# Altium footprint library ASSMANN A-2004-2-4-LPS-N-R.PCBLIB: 1 footprints
Each footprint in its own frame and in the unit in brackets; x right, y up, seen from the top. Pads: shape width x height; smd on the part's side, far side on the other; paste and mask are expansions set on the pad; w line width, h text height; cw(c..) or ccw(c..) is an arc to the next point about the centre after c.
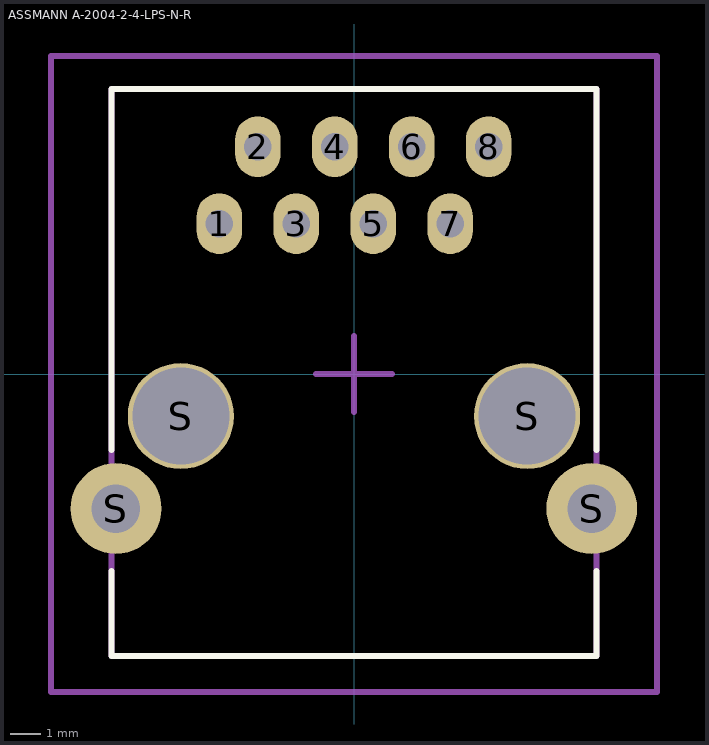
[diagram p0: the footprint, top view; thin cyan lines are the x and y axes]

## ASSMANN A-2004-2-4-LPS-N-R [mm]
height 13.3
pads (12):
  oval 1.5x2 hole 0.9: 1(-4.445,4.96) 2(-3.175,7.5) 3(-1.905,4.96) 4(-0.635,7.5) 5(0.635,4.96) 6(1.905,7.5) 7(3.175,4.96) 8(4.445,7.5)
  round 3 hole 1.6: S(-7.855,-4.44) S(7.845,-4.44)
  round 3.5 hole 3.2: S(-5.715,-1.39) S(5.715,-1.39)
Top Overlay:
  lines w0.2: -8,-6.5 -8,-9.3 8,-9.3 8,-6.5 ; -8,-2.5 -8,9.4 8,9.4 8,-2.5
Mechanical 1:
  lines w0.2: -8,-9.3 8,-9.3 8,9.4 -8,9.4 -8,-9.3
Mechanical 15:
  lines w0.2: -1.25,0 1.25,0 ; 0,-1.25 0,1.25 ; -10,-10.5 10,-10.5 10,10.5 -10,10.5 -10,-10.5
3D body "ASSMANN A-2004-2-4-LPS-N-R.STEP": height 13.3, standoff -3.5, extent -8,-9.3 8,9.4